# EAGLE library part DPNO-101-2-A (library relay-pickering)
DPST Relay TTL SIL Pickering 101-2-A series 74HC drive (6 of 7 pin SIL)
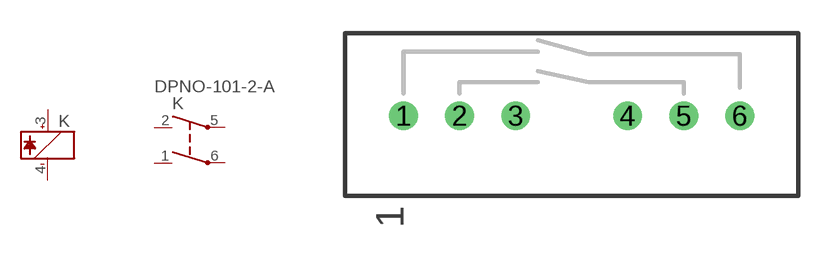
[diagram p0: symbol with the pads of 1012A; footprint 1012A]

Designator prefix K; gates G$1=RELAY-COIL G$2=DPST-CONTACT

## DPNO-101-2-A  [1012A]
1  G$2:NO1  pas
2  G$2:NO  pas
3  G$1:+  pas
4  G$1:-  pas
5  G$2:C  pas
6  G$2:C1  pas

## Footprint 1012A (pad centres in mm)
DPST Relay TTL SIL Pickering 101-2-A series 74HC drive (6 of 7 pin SIL)
drill 0.8 pad 1.3 round: 1 -7.62,0; 2 -5.08,0; 3 -2.54,0; 4 2.54,0; 5 5.08,0; 6 7.62,0